# EAGLE library part 2XUSB (library magzor-connectors)
dual stacked USB connector
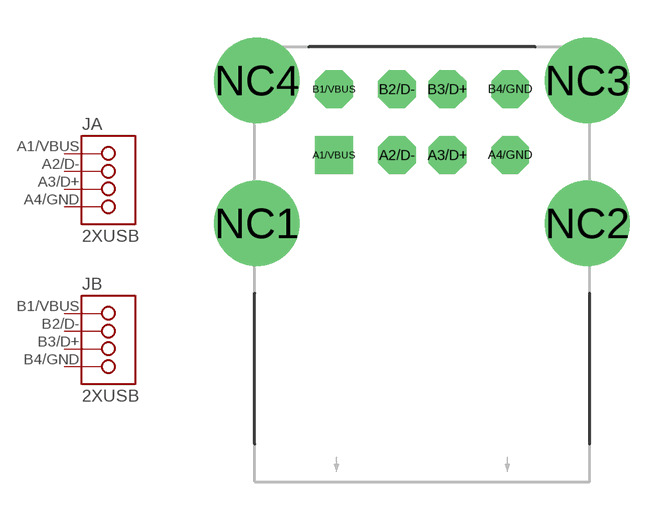
[diagram p7: symbol with the pads of MOLEX-67298-3090; footprint MOLEX-67298-3090]

Designator prefix J; gates A=1X04 B=1X04

## 2XUSB-67298-3090  [MOLEX-67298-3090]
A1/VBUS  A:1
A2/D-  A:2
A3/D+  A:3
A4/GND  A:4
B1/VBUS  B:1
B2/D-  B:2
B3/D+  B:3
B4/GND  B:4

## Footprint MOLEX-67298-3090 (pad centres in mm)
Molex 67298-3090 dual stacked USB A input thru hole
drill 1 square: A1/VBUS -3.5,2.83
drill 1 octagon: A2/D- -1,2.83; A3/D+ 1,2.83; A4/GND 3.5,2.83; B1/VBUS -3.5,5.45; B2/D- -1,5.45; B3/D+ 1,5.45; B4/GND 3.5,5.45
drill 2.38: NC1 -6.57,0.12; NC2 6.57,0.12; NC3 6.57,5.8; NC4 -6.57,5.8